# Altium footprint library PcbLib1.PcbLib: 5 footprints
Each footprint in its own frame and in the unit in brackets; x right, y up, seen from the top. Pads: shape width x height; smd on the part's side, far side on the other; paste and mask are expansions set on the pad; w line width, h text height; cw(c..) or ccw(c..) is an arc to the next point about the centre after c.
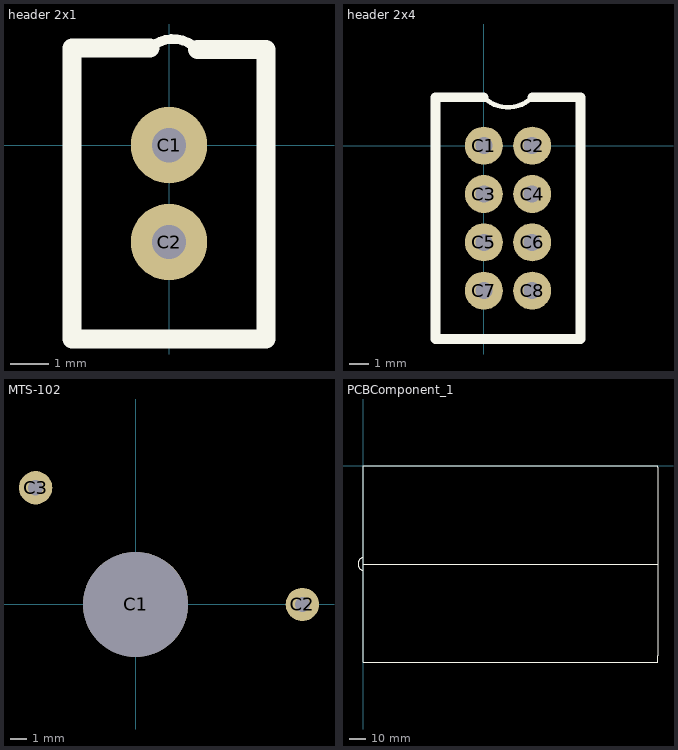
[diagram p0: the footprints below, top view; thin cyan lines are the x and y axes]

## header 2x1 [mm] "header male 2x1"
pads (2):
  round 2 hole 0.9: C1(0,0) C2(0,-2.54)
Top Overlay:
  lines w0.254: -0.5,2.54 cw(c0.105,1.895) 0.75,2.5
  lines w0.5: -0.5,2.54 -2.54,2.54 -2.54,-5.08 2.54,-5.08 2.54,2.5 0.75,2.5
3D body "User Library-ZL262-2SG.STEP": height 8.4, standoff -3.15, extent -1.25,-3.75 1.25,1.33

## header 2x4 [mm] "header female 2x4"
pads (8):
  round 2 hole 0.9: C1(0,0) C2(2.54,0) C3(0,-2.54) C4(2.54,-2.54) C5(0,-5.08) C6(2.54,-5.08) C7(0,-7.62) C8(2.54,-7.62)
Top Overlay:
  lines w0.254: 0,2.54 ccw(c1.27,3.81) 2.54,2.54
  lines w0.5: 0,2.54 -2.54,2.54 -2.54,-10.16 5.08,-10.16 5.08,2.54 2.54,2.54
3D body "User Library-2x4 female header 2_54mm pitch.STEP": height 4.5, standoff -3.15, extent -1.27,-8.89 3.81,1.27

## MTS-102 [mm] "chave MTS-102,"
pads (3):
  round 6.3 hole 6.3 unplated: C1(0,0)
  round 2 hole 0.9: C2(10,0) C3(-6,7)
3D body "step_chave.STEP": height 18.34, standoff -16.3, extent -6.6,-3.95 6.6,3.95

## PCBComponent_1 [mm] "2 protoboad 830 pin each"
Top Overlay:
  lines w0.254: -0.029,-64.116 cw(c1,-60) -0.029,-55.884
  lines w0.5: 0,-60 180,-60 ; 180,-120 180,-116 180,-75 180,-1 180,0 0,0 0,-120 1,-120 180,-120 ; 180,-120 180,-120
3D body "proto_830.step": height 10, standoff 0, extent 7,-114.75 172,-59.25
3D body "proto_830.step": height 10, standoff 0, extent 7,-60 172,-4.5

## PCBComponent_1 - duplicate [mm]